# EAGLE library part WIZ820IO (library UPenn)
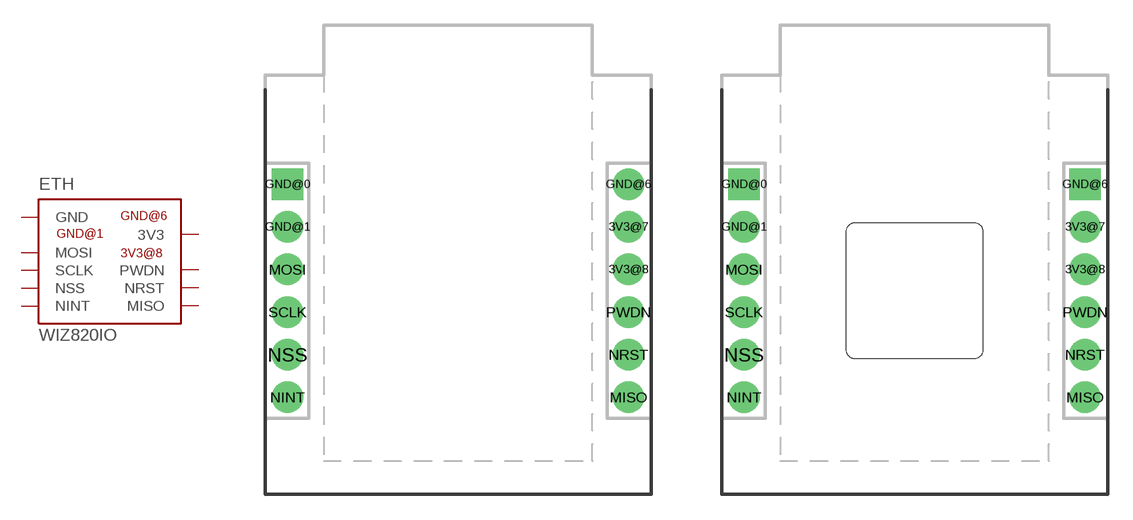
[diagram p0: symbol with the pads of WIZ820IO; footprints WIZ820IO, WIZ820IO_HOLE]

Designator prefix ETH

## WIZ820IO_SILK  [WIZ820IO]
3V3@7  3V3  pwr
3V3@8  3V3  pwr
GND@0  GND  pwr
GND@1  GND  pwr
GND@6  GND  pwr
MISO  MISO
MOSI  MOSI
NINT  NINT
NRST  NRST
NSS  NSS
PWDN  PWDN
SCLK  SCLK

## WIZ820IO_HOLE  [WIZ820IO_HOLE]
Pads as for WIZ820IO

## WIZ820IO_NOSILK  [WIZ820IO_NOSILK]
Pads as for WIZ820IO

## WIZ820IO_THIN  [WIZ820IO_THIN]
Pads as for WIZ820IO

## Footprint WIZ820IO (pad centres in mm)
drill 1.016 pad 1.88: 3V3@7 10.16,3.81; 3V3@8 10.16,1.27; GND@1 -10.16,3.81; GND@6 10.16,6.35; MISO 10.16,-6.35; MOSI -10.16,1.27; NINT -10.16,-6.35; NRST 10.16,-3.81; NSS -10.16,-3.81; PWDN 10.16,-1.27; SCLK -10.16,-1.27
drill 1.016 pad 1.88 square: GND@0 -10.16,6.35

## Footprint WIZ820IO_HOLE (pad centres in mm)
drill 1.016 pad 1.88: 3V3@7 10.16,3.81; 3V3@8 10.16,1.27; GND@1 -10.16,3.81; MISO 10.16,-6.35; MOSI -10.16,1.27; NINT -10.16,-6.35; NRST 10.16,-3.81; NSS -10.16,-3.81; PWDN 10.16,-1.27; SCLK -10.16,-1.27
drill 1.016 pad 1.88 square: GND@0 -10.16,6.35; GND@6 10.16,6.35

## Footprint WIZ820IO_NOSILK (pad centres in mm)
drill 1.016 pad 1.88: 3V3@7 10.16,3.81; 3V3@8 10.16,1.27; GND@1 -10.16,3.81; GND@6 10.16,6.35; MISO 10.16,-6.35; MOSI -10.16,1.27; NINT -10.16,-6.35; NRST 10.16,-3.81; NSS -10.16,-3.81; PWDN 10.16,-1.27; SCLK -10.16,-1.27
drill 1.016 pad 1.88 square: GND@0 -10.16,6.35

## Footprint WIZ820IO_THIN (pad centres in mm)
drill 0.965: 3V3@7 10.16,3.81; 3V3@8 10.16,1.27; GND@1 -10.16,3.81; GND@6 10.16,6.35; MISO 10.16,-6.35; MOSI -10.16,1.27; NINT -10.16,-6.35; NRST 10.16,-3.81; NSS -10.16,-3.81; PWDN 10.16,-1.27; SCLK -10.16,-1.27
drill 0.965 square: GND@0 -10.16,6.35